# Altium schematic symbol library WCH-CH634.SchLib: 10 symbols
Pins are listed as number, name and electrical type; pins without a type are passive.

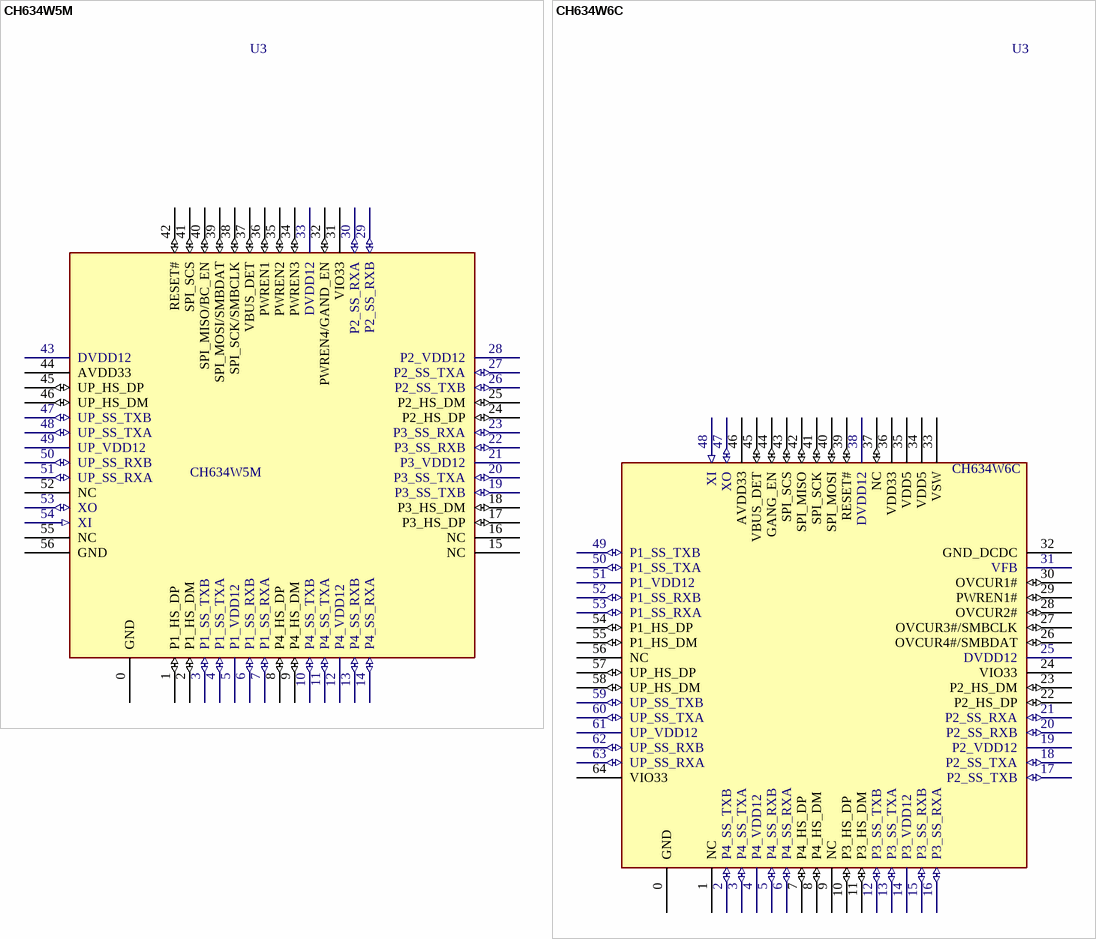
[diagram p0: symbols CH634W5M to CH634W6C]

## CH634W5M
designator U3
4 ports USB 3.0 SS hub
footprint QFN56_7x7
pins: 0 GND (power), 1 P1_HS_DP (io), 2 P1_HS_DM (io), 3 P1_SS_TXB (io), 4 P1_SS_TXA (io), 5 P1_VDD12 (power), 6 P1_SS_RXB (io), 7 P1_SS_RXA (io), 8 P4_HS_DP (io), 9 P4_HS_DM (io), 10 P4_SS_TXB (io), 11 P4_SS_TXA (io), 12 P4_VDD12 (power), 13 P4_SS_RXB (io), 14 P4_SS_RXA (io), 15 NC, 16 NC, 17 P3_HS_DP (io), 18 P3_HS_DM (io), 19 P3_SS_TXB (io), 20 P3_SS_TXA (io), 21 P3_VDD12 (power), 22 P3_SS_RXB (io), 23 P3_SS_RXA (io), 24 P2_HS_DP (io), 25 P2_HS_DM (io), 26 P2_SS_TXB (io), 27 P2_SS_TXA (io), 28 P2_VDD12 (power), 29 P2_SS_RXB (io), 30 P2_SS_RXA (io), 31 VIO33 (power), 32 PWREN4/GAND_EN (io), 33 DVDD12 (power), 34 PWREN3 (io), 35 PWREN2 (io), 36 PWREN1 (io), 37 VBUS_DET (io), 38 SPI_SCK/SMBCLK (io), 39 SPI_MOSI/SMBDAT (io), 40 SPI_MISO/BC_EN (io), 41 SPI_SCS (io), 42 RESET# (io), 43 DVDD12 (power), 44 AVDD33 (power), 45 UP_HS_DP (io), 46 UP_HS_DM (io), 47 UP_SS_TXB (io), 48 UP_SS_TXA (io), 49 UP_VDD12 (power), 50 UP_SS_RXB (io), 51 UP_SS_RXA (io), 52 NC, 53 XO (io), 54 XI (in), 55 NC, 56 GND (power)

## CH634W6C
designator U3
4 ports USB 3.0 SS hub
footprint QFN64_8X8 (Footprint not found)
pins: 0 GND (power), 1 NC, 2 P4_SS_TXB (io), 3 P4_SS_TXA (io), 4 P4_VDD12 (power), 5 P4_SS_RXB (io), 6 P4_SS_RXA (io), 7 P4_HS_DP (io), 8 P4_HS_DM (io), 9 NC, 10 P3_HS_DP (io), 11 P3_HS_DM (io), 12 P3_SS_TXB (io), 13 P3_SS_TXA (io), 14 P3_VDD12 (power), 15 P3_SS_RXB (io), 16 P3_SS_RXA (io), 17 P2_SS_TXB (io), 18 P2_SS_TXA (io), 19 P2_VDD12 (power), 20 P2_SS_RXB (io), 21 P2_SS_RXA (io), 22 P2_HS_DP (io), 23 P2_HS_DM (io), 24 VIO33 (power), 25 DVDD12 (power), 26 OVCUR4#/SMBDAT (io), 27 OVCUR3#/SMBCLK (io), 28 OVCUR2# (io), 29 PWREN1# (io), 30 OVCUR1# (io), 31 VFB (power), 32 GND_DCDC (power), 33 VSW (power), 34 VDD5 (power), 35 VDD5 (power), 36 VDD33 (power), 37 NC (io), 38 DVDD12 (power), 39 RESET# (io), 40 SPI_MOSI (io), 41 SPI_SCK (io), 42 SPI_MISO (io), 43 SPI_SCS (io), 44 GANG_EN (io), 45 VBUS_DET (io), 46 AVDD33 (power), 47 XO (io), 48 XI (in), 49 P1_SS_TXB (io), 50 P1_SS_TXA (io), 51 P1_VDD12 (power), 52 P1_SS_RXB (io), 53 P1_SS_RXA (io), 54 P1_HS_DP (io), 55 P1_HS_DM (io), 56 NC, 57 UP_HS_DP (io), 58 UP_HS_DM (io), 59 UP_SS_TXB (io), 60 UP_SS_TXA (io), 61 UP_VDD12 (power), 62 UP_SS_RXB (io), 63 UP_SS_RXA (io), 64 VIO33 (power)

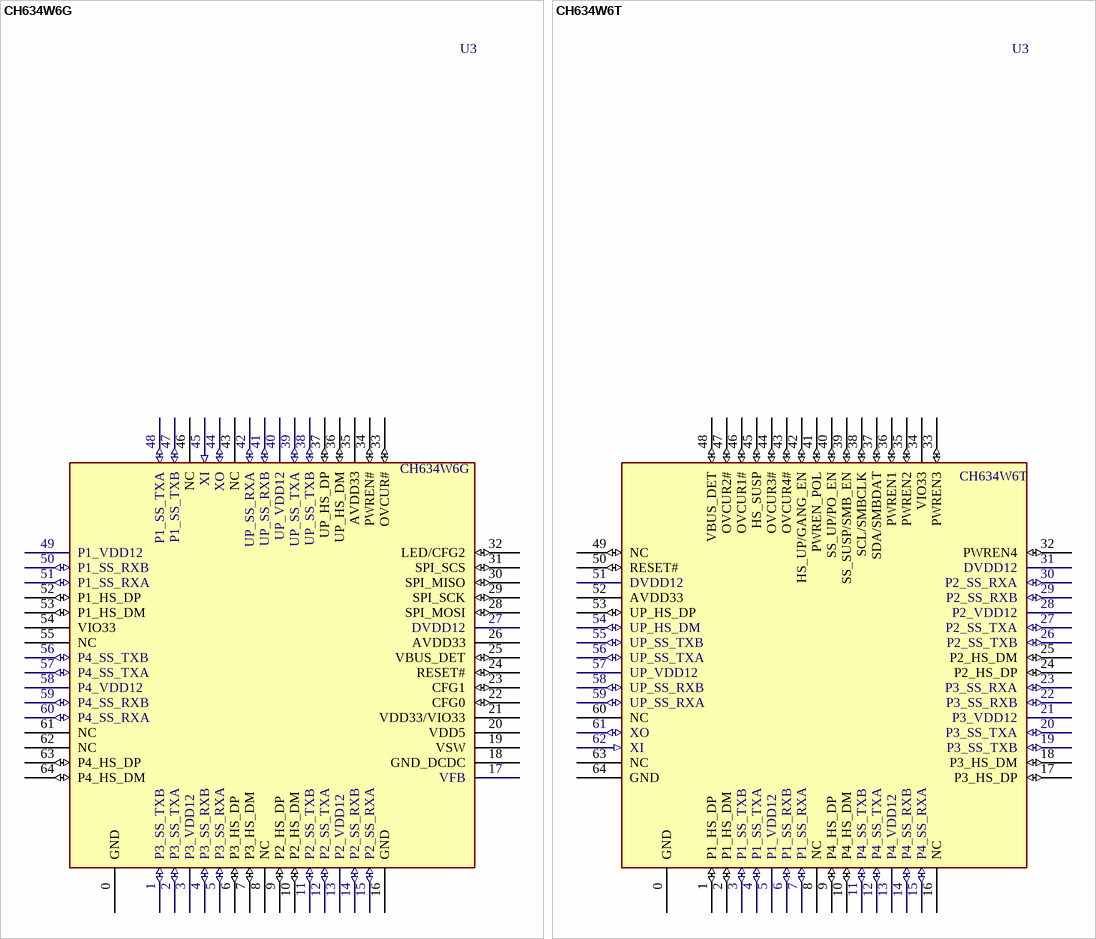
[diagram p1: symbols CH634W6G to CH634W6T]

## CH634W6G
designator U3
4 ports USB 3.0 SS hub
footprint QFN64_8X8 (Footprint not found)
pins: 0 GND (power), 1 P3_SS_TXB (io), 2 P3_SS_TXA (io), 3 P3_VDD12 (power), 4 P3_SS_RXB (io), 5 P3_SS_RXA (io), 6 P3_HS_DP (io), 7 P3_HS_DM (io), 8 NC, 9 P2_HS_DP (io), 10 P2_HS_DM (io), 11 P2_SS_TXB (io), 12 P2_SS_TXA (io), 13 P2_VDD12 (power), 14 P2_SS_RXB (io), 15 P2_SS_RXA (io), 16 GND (power), 17 VFB (power), 18 GND_DCDC (power), 19 VSW (power), 20 VDD5 (power), 21 VDD33/VIO33 (power), 22 CFG0 (io), 23 CFG1 (io), 24 RESET# (io), 25 VBUS_DET (io), 26 AVDD33 (power), 27 DVDD12 (power), 28 SPI_MOSI (io), 29 SPI_SCK (io), 30 SPI_MISO (io), 31 SPI_SCS (io), 32 LED/CFG2 (io), 33 OVCUR# (io), 34 PWREN# (io), 35 AVDD33 (power), 36 UP_HS_DM (io), 37 UP_HS_DP (io), 38 UP_SS_TXB (io), 39 UP_SS_TXA (io), 40 UP_VDD12 (power), 41 UP_SS_RXB (io), 42 UP_SS_RXA (io), 43 NC, 44 XO (io), 45 XI (in), 46 NC, 47 P1_SS_TXB (io), 48 P1_SS_TXA (io), 49 P1_VDD12 (power), 50 P1_SS_RXB (io), 51 P1_SS_RXA (io), 52 P1_HS_DP (io), 53 P1_HS_DM (io), 54 VIO33 (power), 55 NC, 56 P4_SS_TXB (io), 57 P4_SS_TXA (io), 58 P4_VDD12 (power), 59 P4_SS_RXB (io), 60 P4_SS_RXA (io), 61 NC, 62 NC, 63 P4_HS_DP (io), 64 P4_HS_DM (io)

## CH634W6T
designator U3
4 ports USB 3.0 SS hub
footprint QFN64_9X9
pins: 0 GND (power), 1 P1_HS_DP (io), 2 P1_HS_DM (io), 3 P1_SS_TXB (io), 4 P1_SS_TXA (io), 5 P1_VDD12 (power), 6 P1_SS_RXB (io), 7 P1_SS_RXA (io), 8 NC, 9 P4_HS_DP (io), 10 P4_HS_DM (io), 11 P4_SS_TXB (io), 12 P4_SS_TXA (io), 13 P4_VDD12 (power), 14 P4_SS_RXB (io), 15 P4_SS_RXA (io), 16 NC, 17 P3_HS_DP (io), 18 P3_HS_DM (io), 19 P3_SS_TXB (io), 20 P3_SS_TXA (io), 21 P3_VDD12 (power), 22 P3_SS_RXB (io), 23 P3_SS_RXA (io), 24 P2_HS_DP (io), 25 P2_HS_DM (io), 26 P2_SS_TXB (io), 27 P2_SS_TXA (io), 28 P2_VDD12 (power), 29 P2_SS_RXB (io), 30 P2_SS_RXA (io), 31 DVDD12 (power), 32 PWREN4 (io), 33 PWREN3 (io), 34 VIO33 (power), 35 PWREN2 (io), 36 PWREN1 (io), 37 SDA/SMBDAT (io), 38 SCL/SMBCLK (io), 39 SS_SUSP/SMB_EN (io), 40 SS_UP/PO_EN (io), 41 PWREN_POL (io), 42 HS_UP/GANG_EN (io), 43 OVCUR4# (io), 44 OVCUR3# (io), 45 HS_SUSP (io), 46 OVCUR1# (io), 47 OVCUR2# (io), 48 VBUS_DET (io), 49 NC (io), 50 RESET# (io), 51 DVDD12 (power), 52 AVDD33 (power), 53 UP_HS_DP (io), 54 UP_HS_DM (io), 55 UP_SS_TXB (io), 56 UP_SS_TXA (io), 57 UP_VDD12 (power), 58 UP_SS_RXB (io), 59 UP_SS_RXA (io), 60 NC, 61 XO (io), 62 XI (in), 63 NC, 64 GND (power)

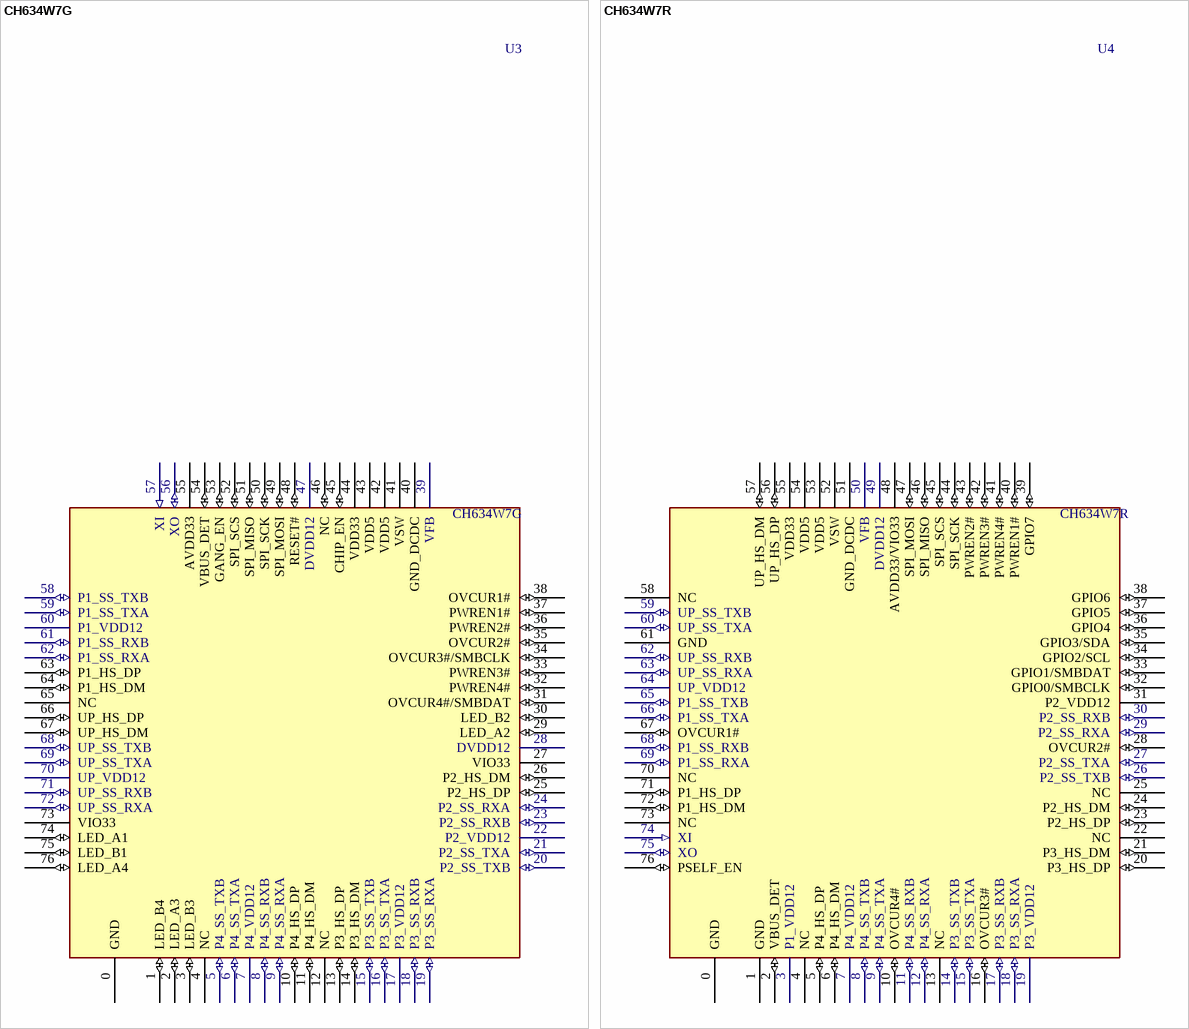
[diagram p2: symbols CH634W7G to CH634W7R]

## CH634W7G
designator U3
4 ports USB 3.0 SS hub
footprint QFN76_9X9
pins: 0 GND (power), 1 LED_B4 (io), 2 LED_A3 (io), 3 LED_B3 (io), 4 NC, 5 P4_SS_TXB (io), 6 P4_SS_TXA (io), 7 P4_VDD12 (power), 8 P4_SS_RXB (io), 9 P4_SS_RXA (io), 10 P4_HS_DP (io), 11 P4_HS_DM (io), 12 NC, 13 P3_HS_DP (io), 14 P3_HS_DM (io), 15 P3_SS_TXB (io), 16 P3_SS_TXA (io), 17 P3_VDD12 (power), 18 P3_SS_RXB (io), 19 P3_SS_RXA (io), 20 P2_SS_TXB (io), 21 P2_SS_TXA (io), 22 P2_VDD12 (power), 23 P2_SS_RXB (io), 24 P2_SS_RXA (io), 25 P2_HS_DP (io), 26 P2_HS_DM (io), 27 VIO33 (power), 28 DVDD12 (power), 29 LED_A2 (io), 30 LED_B2 (io), 31 OVCUR4#/SMBDAT (io), 32 PWREN4# (io), 33 PWREN3# (io), 34 OVCUR3#/SMBCLK (io), 35 OVCUR2# (io), 36 PWREN2# (io), 37 PWREN1# (io), 38 OVCUR1# (io), 39 VFB (power), 40 GND_DCDC (power), 41 VSW (power), 42 VDD5 (power), 43 VDD5 (power), 44 VDD33 (power), 45 CHIP_EN (io), 46 NC (io), 47 DVDD12 (power), 48 RESET# (io), 49 SPI_MOSI (io), 50 SPI_SCK (io), 51 SPI_MISO (io), 52 SPI_SCS (io), 53 GANG_EN (io), 54 VBUS_DET (io), 55 AVDD33 (power), 56 XO (io), 57 XI (in), 58 P1_SS_TXB (io), 59 P1_SS_TXA (io), 60 P1_VDD12 (power), 61 P1_SS_RXB (io), 62 P1_SS_RXA (io), 63 P1_HS_DP (io), 64 P1_HS_DM (io), 65 NC, 66 UP_HS_DP (io), 67 UP_HS_DM (io), 68 UP_SS_TXB (io), 69 UP_SS_TXA (io), 70 UP_VDD12 (power), 71 UP_SS_RXB (io), 72 UP_SS_RXA (io), 73 VIO33 (power), 74 LED_A1 (io), 75 LED_B1 (io), 76 LED_A4 (io)

## CH634W7R
designator U4
4 ports USB 3.0 SS hub
footprint QFN76_9X9
pins: 0 GND (power), 1 GND (power), 2 VBUS_DET (io), 3 P1_VDD12 (power), 4 NC, 5 P4_HS_DP (io), 6 P4_HS_DM (io), 7 P4_VDD12 (power), 8 P4_SS_TXB (io), 9 P4_SS_TXA (io), 10 OVCUR4# (io), 11 P4_SS_RXB (io), 12 P4_SS_RXA (io), 13 NC, 14 P3_SS_TXB (io), 15 P3_SS_TXA (io), 16 OVCUR3# (io), 17 P3_SS_RXB (io), 18 P3_SS_RXA (io), 19 P3_VDD12 (power), 20 P3_HS_DP (io), 21 P3_HS_DM (io), 22 NC, 23 P2_HS_DP (io), 24 P2_HS_DM (io), 25 NC, 26 P2_SS_TXB (io), 27 P2_SS_TXA (io), 28 OVCUR2# (io), 29 P2_SS_RXA (io), 30 P2_SS_RXB (io), 31 P2_VDD12 (power), 32 GPIO0/SMBCLK (io), 33 GPIO1/SMBDAT (io), 34 GPIO2/SCL (io), 35 GPIO3/SDA (io), 36 GPIO4 (io), 37 GPIO5 (io), 38 GPIO6 (io), 39 GPIO7 (io), 40 PWREN1# (io), 41 PWREN4# (io), 42 PWREN3# (io), 43 PWREN2# (io), 44 SPI_SCK (io), 45 SPI_SCS (io), 46 SPI_MISO (io), 47 SPI_MOSI (io), 48 AVDD33/VIO33 (power), 49 DVDD12 (power), 50 VFB (power), 51 GND_DCDC (power), 52 VSW (power), 53 VDD5 (power), 54 VDD5 (power), 55 VDD33 (power), 56 UP_HS_DP (io), 57 UP_HS_DM (io), 58 NC, 59 UP_SS_TXB (io), 60 UP_SS_TXA (io), 61 GND (power), 62 UP_SS_RXB (io), 63 UP_SS_RXA (io), 64 UP_VDD12 (power), 65 P1_SS_TXB (io), 66 P1_SS_TXA (io), 67 OVCUR1# (io), 68 P1_SS_RXB (io), 69 P1_SS_RXA (io), 70 NC, 71 P1_HS_DP (io), 72 P1_HS_DM (io), 73 NC, 74 XI (in), 75 XO (io), 76 PSELF_EN (io)

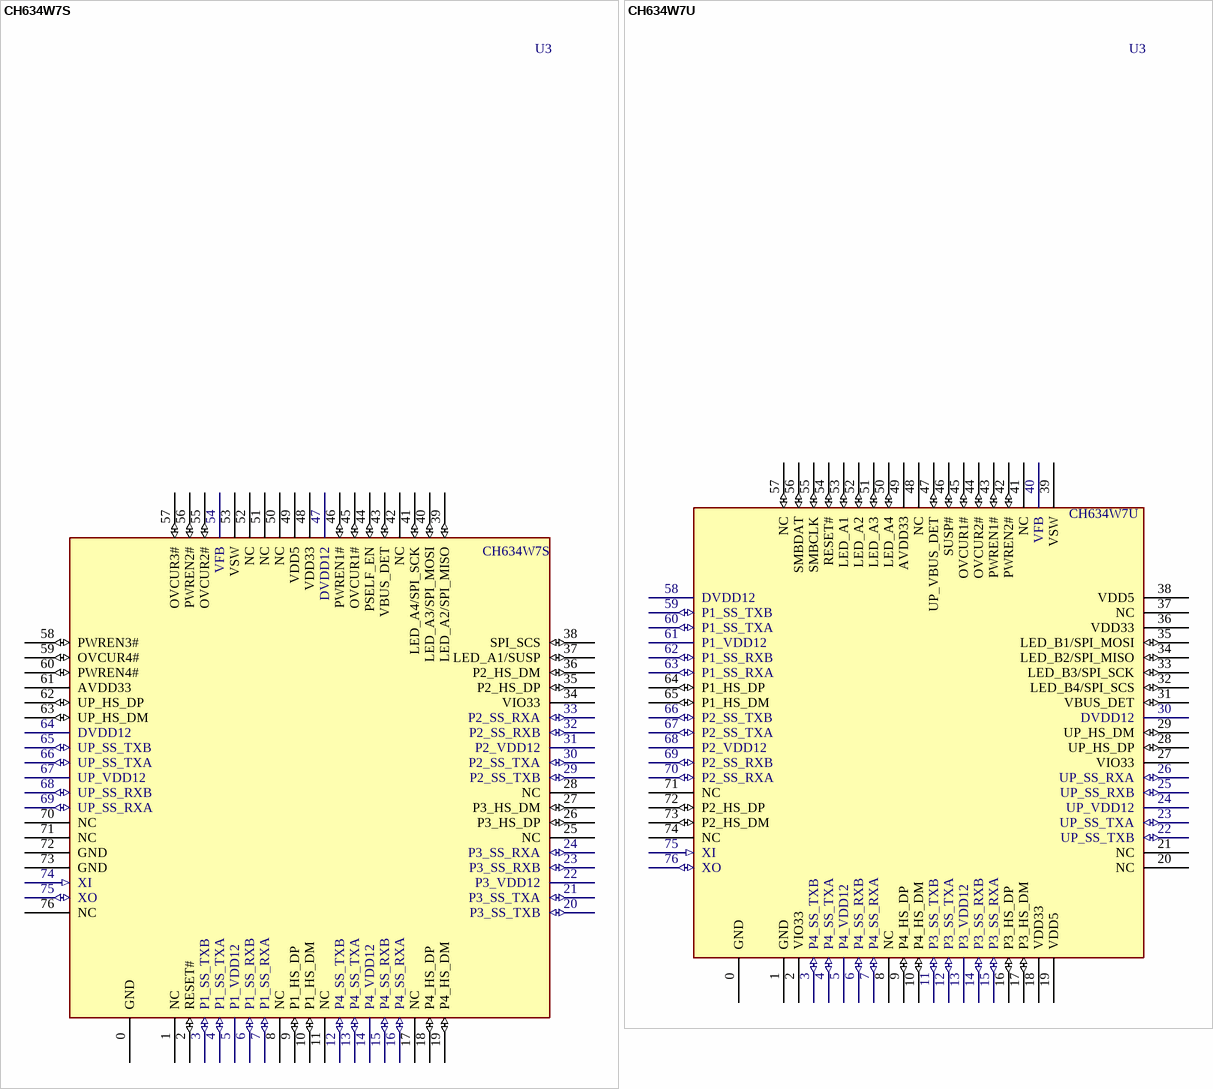
[diagram p3: symbols CH634W7S to CH634W7U]

## CH634W7S
designator U3
4 ports USB 3.0 SS hub
footprint QFN76_9X9
pins: 0 GND (power), 1 NC, 2 RESET# (io), 3 P1_SS_TXB (io), 4 P1_SS_TXA (io), 5 P1_VDD12 (power), 6 P1_SS_RXB (io), 7 P1_SS_RXA (io), 8 NC, 9 P1_HS_DP (io), 10 P1_HS_DM (io), 11 NC, 12 P4_SS_TXB (io), 13 P4_SS_TXA (io), 14 P4_VDD12 (power), 15 P4_SS_RXB (io), 16 P4_SS_RXA (io), 17 NC, 18 P4_HS_DP (io), 19 P4_HS_DM (io), 20 P3_SS_TXB (io), 21 P3_SS_TXA (io), 22 P3_VDD12 (power), 23 P3_SS_RXB (io), 24 P3_SS_RXA (io), 25 NC, 26 P3_HS_DP (io), 27 P3_HS_DM (io), 28 NC, 29 P2_SS_TXB (io), 30 P2_SS_TXA (io), 31 P2_VDD12 (power), 32 P2_SS_RXB (io), 33 P2_SS_RXA (io), 34 VIO33 (power), 35 P2_HS_DP (io), 36 P2_HS_DM (io), 37 LED_A1/SUSP (io), 38 SPI_SCS (io), 39 LED_A2/SPI_MISO (io), 40 LED_A3/SPI_MOSI (io), 41 LED_A4/SPI_SCK (io), 42 NC, 43 VBUS_DET (io), 44 PSELF_EN (io), 45 OVCUR1# (io), 46 PWREN1# (io), 47 DVDD12 (power), 48 VDD33 (power), 49 VDD5 (power), 50 NC, 51 NC, 52 NC, 53 VSW (power), 54 VFB (power), 55 OVCUR2# (io), 56 PWREN2# (io), 57 OVCUR3# (io), 58 PWREN3# (io), 59 OVCUR4# (io), 60 PWREN4# (io), 61 AVDD33 (power), 62 UP_HS_DP (io), 63 UP_HS_DM (io), 64 DVDD12 (power), 65 UP_SS_TXB (io), 66 UP_SS_TXA (io), 67 UP_VDD12 (power), 68 UP_SS_RXB (io), 69 UP_SS_RXA (io), 70 NC, 71 NC, 72 GND (power), 73 GND (power), 74 XI (in), 75 XO (io), 76 NC

## CH634W7U
designator U3
4 ports USB 3.0 SS hub
footprint QFN76_9X9
pins: 0 GND (power), 1 GND (power), 2 VIO33 (power), 3 P4_SS_TXB (io), 4 P4_SS_TXA (io), 5 P4_VDD12 (power), 6 P4_SS_RXB (io), 7 P4_SS_RXA (io), 8 NC, 9 P4_HS_DP (io), 10 P4_HS_DM (io), 11 P3_SS_TXB (io), 12 P3_SS_TXA (io), 13 P3_VDD12 (power), 14 P3_SS_RXB (io), 15 P3_SS_RXA (io), 16 P3_HS_DP (io), 17 P3_HS_DM (io), 18 VDD33 (power), 19 VDD5 (power), 20 NC, 21 NC, 22 UP_SS_TXB (io), 23 UP_SS_TXA (io), 24 UP_VDD12 (power), 25 UP_SS_RXB (io), 26 UP_SS_RXA (io), 27 VIO33 (power), 28 UP_HS_DP (io), 29 UP_HS_DM (io), 30 DVDD12 (power), 31 VBUS_DET (io), 32 LED_B4/SPI_SCS (io), 33 LED_B3/SPI_SCK (io), 34 LED_B2/SPI_MISO (io), 35 LED_B1/SPI_MOSI (io), 36 VDD33 (power), 37 NC, 38 VDD5 (power), 39 VSW (power), 40 VFB (power), 41 NC, 42 PWREN2# (io), 43 PWREN1# (io), 44 OVCUR2# (io), 45 OVCUR1# (io), 46 SUSP# (io), 47 UP_VBUS_DET (io), 48 NC, 49 AVDD33 (power), 50 LED_A4 (io), 51 LED_A3 (io), 52 LED_A2 (io), 53 LED_A1 (io), 54 RESET# (io), 55 SMBCLK (io), 56 SMBDAT (io), 57 NC (io), 58 DVDD12 (power), 59 P1_SS_TXB (io), 60 P1_SS_TXA (io), 61 P1_VDD12 (power), 62 P1_SS_RXB (io), 63 P1_SS_RXA (io), 64 P1_HS_DP (io), 65 P1_HS_DM (io), 66 P2_SS_TXB (io), 67 P2_SS_TXA (io), 68 P2_VDD12 (power), 69 P2_SS_RXB (io), 70 P2_SS_RXA (io), 71 NC, 72 P2_HS_DP (io), 73 P2_HS_DM (io), 74 NC, 75 XI (in), 76 XO (io)

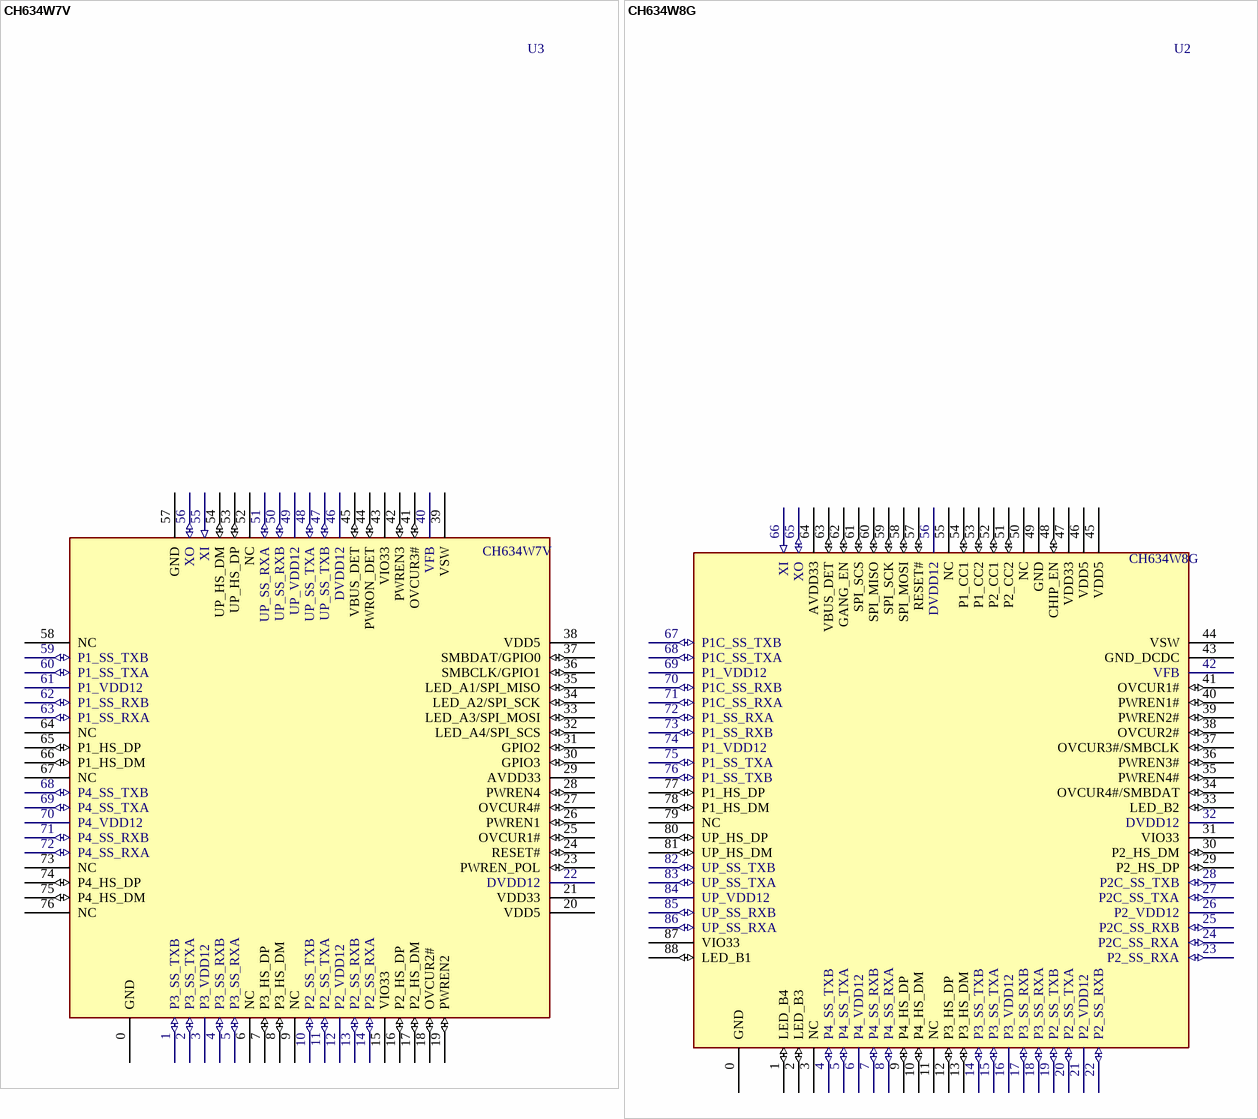
[diagram p4: symbols CH634W7V to CH634W8G]

## CH634W7V
designator U3
4 ports USB 3.0 SS hub
footprint QFN76_9X9
pins: 0 GND (power), 1 P3_SS_TXB (io), 2 P3_SS_TXA (io), 3 P3_VDD12 (power), 4 P3_SS_RXB (io), 5 P3_SS_RXA (io), 6 NC, 7 P3_HS_DP (io), 8 P3_HS_DM (io), 9 NC, 10 P2_SS_TXB (io), 11 P2_SS_TXA (io), 12 P2_VDD12 (power), 13 P2_SS_RXB (io), 14 P2_SS_RXA (io), 15 VIO33 (power), 16 P2_HS_DP (io), 17 P2_HS_DM (io), 18 OVCUR2# (io), 19 PWREN2 (io), 20 VDD5 (power), 21 VDD33 (power), 22 DVDD12 (power), 23 PWREN_POL (io), 24 RESET# (io), 25 OVCUR1# (io), 26 PWREN1 (io), 27 OVCUR4# (io), 28 PWREN4 (io), 29 AVDD33 (power), 30 GPIO3 (io), 31 GPIO2 (io), 32 LED_A4/SPI_SCS (io), 33 LED_A3/SPI_MOSI (io), 34 LED_A2/SPI_SCK (io), 35 LED_A1/SPI_MISO (io), 36 SMBCLK/GPIO1 (io), 37 SMBDAT/GPIO0 (io), 38 VDD5 (power), 39 VSW (power), 40 VFB (power), 41 OVCUR3# (io), 42 PWREN3 (io), 43 VIO33 (power), 44 PWRON_DET (io), 45 VBUS_DET (io), 46 DVDD12 (power), 47 UP_SS_TXB (io), 48 UP_SS_TXA (io), 49 UP_VDD12 (power), 50 UP_SS_RXB (io), 51 UP_SS_RXA (io), 52 NC, 53 UP_HS_DP (io), 54 UP_HS_DM (io), 55 XI (in), 56 XO (io), 57 GND (power), 58 NC, 59 P1_SS_TXB (io), 60 P1_SS_TXA (io), 61 P1_VDD12 (power), 62 P1_SS_RXB (io), 63 P1_SS_RXA (io), 64 NC, 65 P1_HS_DP (io), 66 P1_HS_DM (io), 67 NC, 68 P4_SS_TXB (io), 69 P4_SS_TXA (io), 70 P4_VDD12 (power), 71 P4_SS_RXB (io), 72 P4_SS_RXA (io), 73 NC, 74 P4_HS_DP (io), 75 P4_HS_DM (io), 76 NC

## CH634W8G
designator U2
4 ports USB 3.0 SS hub
footprint QFN88_10X10
pins: 0 GND (power), 1 LED_B4 (io), 2 LED_B3 (io), 3 NC, 4 P4_SS_TXB (io), 5 P4_SS_TXA (io), 6 P4_VDD12 (power), 7 P4_SS_RXB (io), 8 P4_SS_RXA (io), 9 P4_HS_DP (io), 10 P4_HS_DM (io), 11 NC, 12 P3_HS_DP (io), 13 P3_HS_DM (io), 14 P3_SS_TXB (io), 15 P3_SS_TXA (io), 16 P3_VDD12 (power), 17 P3_SS_RXB (io), 18 P3_SS_RXA (io), 19 P2_SS_TXB (io), 20 P2_SS_TXA (io), 21 P2_VDD12 (power), 22 P2_SS_RXB (io), 23 P2_SS_RXA (io), 24 P2C_SS_RXA (io), 25 P2C_SS_RXB (io), 26 P2_VDD12 (power), 27 P2C_SS_TXA (io), 28 P2C_SS_TXB (io), 29 P2_HS_DP (io), 30 P2_HS_DM (io), 31 VIO33 (power), 32 DVDD12 (power), 33 LED_B2 (io), 34 OVCUR4#/SMBDAT (io), 35 PWREN4# (io), 36 PWREN3# (io), 37 OVCUR3#/SMBCLK (io), 38 OVCUR2# (io), 39 PWREN2# (io), 40 PWREN1# (io), 41 OVCUR1# (io), 42 VFB (power), 43 GND_DCDC (power), 44 VSW (power), 45 VDD5 (power), 46 VDD5 (power), 47 VDD33 (power), 48 CHIP_EN (io), 49 GND (power), 50 NC, 51 P2_CC2 (io), 52 P2_CC1 (io), 53 P1_CC2 (io), 54 P1_CC1 (io), 55 NC, 56 DVDD12 (power), 57 RESET# (io), 58 SPI_MOSI (io), 59 SPI_SCK (io), 60 SPI_MISO (io), 61 SPI_SCS (io), 62 GANG_EN (io), 63 VBUS_DET (io), 64 AVDD33 (power), 65 XO (io), 66 XI (in), 67 P1C_SS_TXB (io), 68 P1C_SS_TXA (io), 69 P1_VDD12 (power), 70 P1C_SS_RXB (io), 71 P1C_SS_RXA (io), 72 P1_SS_RXA (io), 73 P1_SS_RXB (io), 74 P1_VDD12 (power), 75 P1_SS_TXA (io), 76 P1_SS_TXB (io), 77 P1_HS_DP (io), 78 P1_HS_DM (io), 79 NC, 80 UP_HS_DP (io), 81 UP_HS_DM (io), 82 UP_SS_TXB (io), 83 UP_SS_TXA (io), 84 UP_VDD12 (power), 85 UP_SS_RXB (io), 86 UP_SS_RXA (io), 87 VIO33 (power), 88 LED_B1 (io)